# Altium footprint library Sensors.PcbLib: 6 footprints
Each footprint in its own frame and in the unit in brackets; x right, y up, seen from the top. Pads: shape width x height; smd on the part's side, far side on the other; paste and mask are expansions set on the pad; w line width, h text height; cw(c..) or ccw(c..) is an arc to the next point about the centre after c.
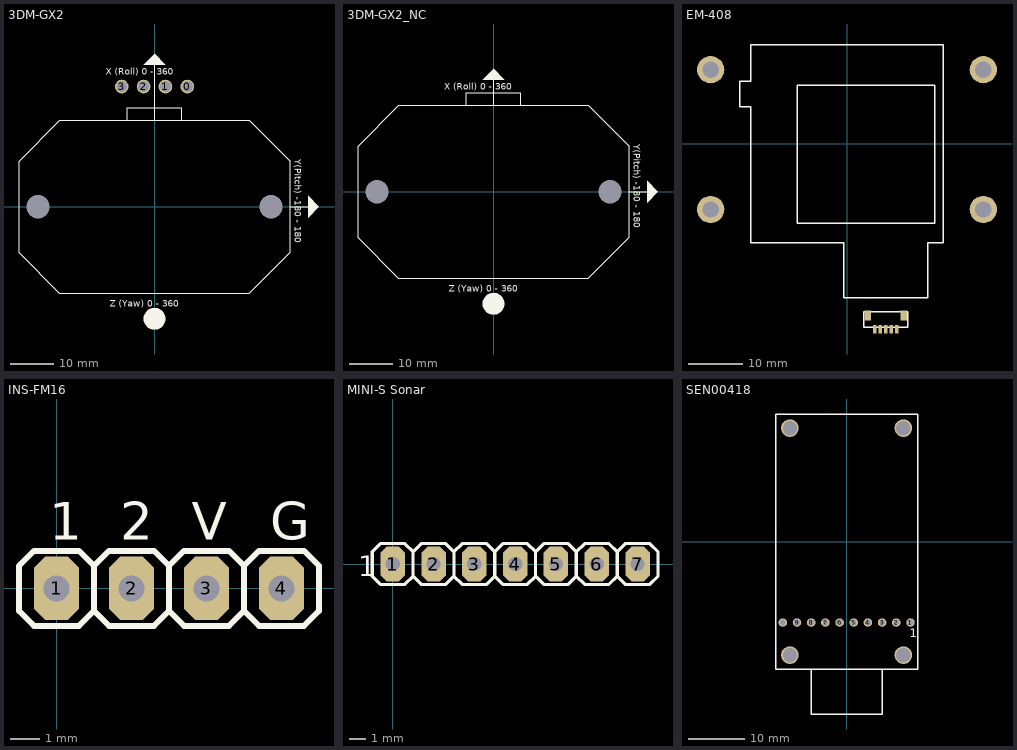
[diagram p0: the footprints below, top view; thin cyan lines are the x and y axes]

## 3DM-GX2 [mil] "MicroStrain 3DM-GX2 USB Inetial Measurement Unit (IMU)"
pads (6):
  round 125 hole 100: 0(300,1100) 1(100,1100) 2(-100,1100) 3(-300,1100)
  round 0 hole 211: ""(-1065,0) ""(1065,0)
Top Overlay:
  circle w100: c0,-1025 r50
  region: -100,1300 100,1300 0,1400
  region: 1405,100 1405,-100 1505,0
  lines w10: -250,790 -250,905 250,905 250,790 ; 0,790 0,1300 ; 1240,0 1405,0 ; -1240,-420 -870,-790 865,-790 1240,-415 1240,415 865,790 -865,790 -1240,415 -1240,-420
  text "X (Roll) 0 - 360" at -445,1210 h60
  text "Y(Pitch) -180 - 180" at 1285,435 h60
  text "Z (Yaw) 0 - 360" at -410,-915 h60
3D body: height 1262, standoff 0, extent -1235,-790 1245,909

## 3DM-GX2_NC [mil] "MicroStrain 3DM-GX2 (Not Connected to board) Inetial Measurement Unit (IMU)"
pads (2):
  round 0 hole 211: ""(-1065,0) ""(1065,0)
Top Overlay:
  circle w100: c0,-1025 r50
  region: 1405,100 1405,-100 1505,0
  region: -100,1025 100,1025 0,1125
  lines w10: -250,790 -250,905 250,905 250,790 ; 0,790 0,1025 ; 1240,0 1405,0 ; -1240,-420 -1240,415 -865,790 865,790 1240,415 1240,-415 865,-790 -870,-790 -1240,-420
  text "Z (Yaw) 0 - 360" at -410,-915 h60
  text "Y(Pitch) -180 - 180" at 1285,435 h60
  text "X (Roll) 0 - 360" at -450,935 h60
3D body: height 1262, standoff 0, extent -1235,-790 1245,909

## EM-408 [mm] "GlobalSat EM-408 Global Positioning System (GPS)"
pads (11):
  rect 0.6x1.55 smd: 1(5.112,-34.036) 2(6.112,-34.036) 3(7.112,-34.036) 4(8.112,-34.036) 5(9.112,-34.036)
  round 5 hole 3: ""(-25.019,-12.073) ""(-25.019,13.573) ""(25.019,-12.073) ""(25.019,13.573)
  rect 1.2x1.8 smd: ""(3.812,-31.511) ""(10.412,-31.511)
Top Overlay:
  lines w0.254: -19.685,6.731 -19.685,11.43 -17.653,11.43 -17.653,18.161 17.653,18.161 17.653,-18.161 14.859,-18.161 14.859,-28.321 -0.635,-28.321 -0.635,-18.161 -17.653,-18.161 -17.653,6.731 -19.685,6.731 ; -9.144,-14.605 16.129,-14.605 16.129,10.668 -9.144,10.668 -9.144,-14.605 ; 3.112,-33.711 11.112,-33.711 11.112,-30.811 3.112,-30.811 3.112,-33.711
3D body: height 5, standoff -3.7, extent -19.05,-29.083 17.85,18.217

## INS-FM16 [mil] "Koolance Flowmeter"
pads (4):
  oct 60x85 hole 35: 1(0,0) 2(100,0) 3(200,0) 4(300,0)
Top Overlay:
  lines w8: -30,50 30,50 ; -30,50 -50,30 -50,-30 -30,-50 30,-50 50,-30 ; -30,50 30,50 ; 30,50 50,30 ; 50,-30 50,30 ; 50,-30 50,30 ; 50,-30 50,30 ; 50,-30 70,-50 130,-50 150,-30 ; 50,30 70,50 ; 70,50 130,50 ; 70,50 130,50 ; 130,50 150,30 ; 150,-30 150,30 ; 150,-30 150,30 ; 150,-30 150,30 ; 150,-30 170,-50 230,-50 250,-30 ; 150,30 170,50 ; 170,50 230,50 ; 170,50 230,50 ; 230,50 250,30 ; 250,-30 250,30 ; 250,-30 250,30 ; 250,-30 250,30 ; 250,-30 270,-50 330,-50 350,-30 ; 250,30 270,50 ; 270,50 330,50 ; 270,50 330,50 ; 330,50 350,30 ; 350,-30 350,30 ; 350,-30 350,30
  text "G" at 285,65 h50
  text "V" at 180,65 h50
  text "2" at 85,65 h50
  text "1" at -10,65 h50
3D body: height 460, standoff -120, extent -10,-10 10,10
3D body: height 100, standoff 0, extent -50.02,-50.02 50.02,50.02
3D body: height 460, standoff -120, extent 90,-10 110,10
3D body: height 100, standoff 0, extent 49.98,-50.02 150.02,50.02
3D body: height 460, standoff -120, extent 190,-10 210,10
3D body: height 100, standoff 0, extent 149.98,-50.02 250.02,50.02
3D body: height 460, standoff -120, extent 290,-10 310,10
3D body: height 100, standoff 0, extent 249.98,-50.02 350.02,50.02

## MINI-S Sonar [mil] "SensComp MINI-S Ultrasonic Sensor"
pads (7):
  oct 60x85 hole 35: 1(0,0) 2(100,0) 3(200,0) 4(300,0) 5(400,0) 6(500,0) 7(600,0)
Top Overlay:
  lines w8: -30,50 30,50 ; -30,50 -50,30 -50,-30 -30,-50 30,-50 50,-30 ; -30,50 30,50 ; 30,50 50,30 ; 50,-30 70,-50 130,-50 150,-30 ; 50,-30 50,30 ; 50,-30 50,30 ; 50,-30 50,30 ; 50,30 70,50 ; 70,50 130,50 ; 70,50 130,50 ; 130,50 150,30 ; 150,-30 170,-50 230,-50 250,-30 ; 150,-30 150,30 ; 150,-30 150,30 ; 150,-30 150,30 ; 150,30 170,50 ; 170,50 230,50 ; 170,50 230,50 ; 230,50 250,30 ; 250,-30 270,-50 330,-50 350,-30 ; 250,-30 250,30 ; 250,-30 250,30 ; 250,-30 250,30 ; 250,30 270,50 ; 270,50 330,50 ; 270,50 330,50 ; 330,50 350,30 ; 350,-30 370,-50 430,-50 450,-30 ; 350,-30 350,30 ; 350,-30 350,30 ; 350,-30 350,30 ; 350,30 370,50 ; 370,50 430,50 ; 370,50 430,50 ; 430,50 450,30 ; 450,-30 470,-50 530,-50 550,-30 ; 450,-30 450,30 ; 450,-30 450,30 ; 450,-30 450,30 ; 450,30 470,50 ; 470,50 530,50 ; 470,50 530,50 ; 530,50 550,30 ; 550,-30 570,-50 630,-50 650,-30 ; 550,-30 550,30 ; 550,-30 550,30 ; 550,-30 550,30 ; 550,30 570,50 ; 570,50 630,50 ; 570,50 630,50 ; 630,50 650,30 ; 650,-30 650,30 ; 650,-30 650,30
  text "1" at -85,-30 h50
3D body: height 100, standoff 0, extent 549.98,-50.02 650.02,50.02
3D body: height 460, standoff -120, extent 590,-10 610,10
3D body: height 100, standoff 0, extent 449.98,-50.02 550.02,50.02
3D body: height 460, standoff -120, extent 490,-10 510,10
3D body: height 100, standoff 0, extent 349.98,-50.02 450.02,50.02
3D body: height 460, standoff -120, extent 390,-10 410,10
3D body: height 100, standoff 0, extent 249.98,-50.02 350.02,50.02
3D body: height 460, standoff -120, extent 290,-10 310,10
3D body: height 100, standoff 0, extent 149.98,-50.02 250.02,50.02
3D body: height 460, standoff -120, extent 190,-10 210,10
3D body: height 100, standoff 0, extent 49.98,-50.02 150.02,50.02
3D body: height 460, standoff -120, extent 90,-10 110,10
3D body: height 100, standoff 0, extent -50.02,-50.02 50.02,50.02
3D body: height 460, standoff -120, extent -10,-10 10,10

## SEN00418 [mil] "MicroMag 3Axis Magnetometer SparkFun Eval Board"
pads (14):
  round 60 hole 40: 1(450,-570) 2(350,-570) 3(250,-570) 4(150,-570) 5(50,-570) 6(-50,-570) 7(-150,-570) 8(-250,-570) 9(-350,-570) 10(-450,-570)
  round 124.41 hole 100.79: ""(-400,-800) ""(-400,800) ""(400,-800) ""(400,800)
Top Overlay:
  lines w10: -250,-900 -250,-1215 250,-1215 250,-900 ; -500,-900 500,-900 500,900 -500,900 -500,-900
  text "1" at 445,-675 h60
3D body: height -300, standoff -1167.64, extent -505,-1220 502.09,902.83